# EAGLE library part DHNF-04F-T-V-T_R (library DHNF-04F-T-V-T_R)
DIP Switches / SIP Switches Half Pitch Dip switch 1.6mm height Source: Datasheet <https://componentsearchengine.com//DHNF-04F-T-V-T_R.pdf>
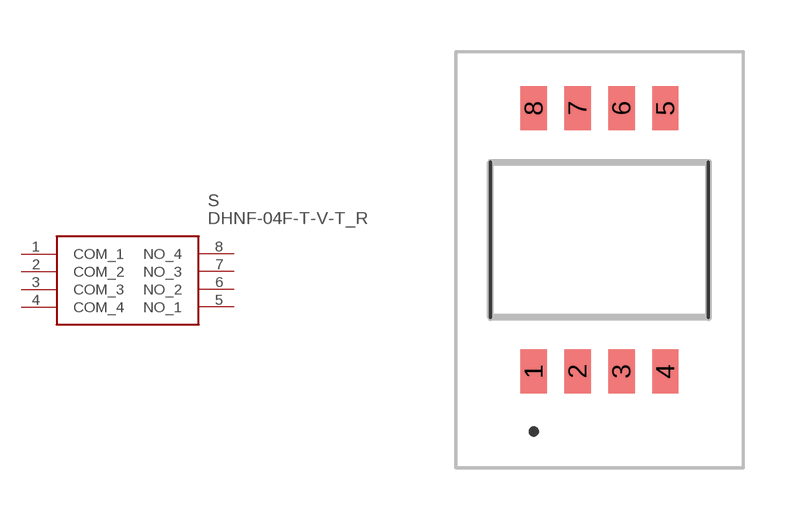
[diagram p0: symbol with the pads of DHNF04FTVTR; footprint DHNF04FTVTR]

Designator prefix S

## DHNF-04F-T-V-T_R (Description: DIP Switches / SIP Switches Half Pitch Dip switch 1.6mm height; Height: 1.65mm; Manufacturer_Name: Diptronics; Manufacturer_Part_Number: DHNF-04F-T-V-T/R; Mouser_Part_Number: 113-DHNF04FTVTR; Mouser_Price-Stock: https://www.mouser.com/Search/Refine.aspx?Keyword=113-DHNF04FTVTR)  [DHNF04FTVTR]
1  COM_1
2  COM_2
3  COM_3
4  COM_4
5  NO_1
6  NO_2
7  NO_3
8  NO_4

## Footprint DHNF04FTVTR (pad centres in mm)
DHNF-04F-T-V-T/R-2
smd 0.76 x 1.27: 1 -1.905,-3.81; 2 -0.635,-3.81; 3 0.635,-3.81; 4 1.905,-3.81; 5 1.905,3.81; 6 0.635,3.81; 7 -0.635,3.81; 8 -1.905,3.81